# Altium schematic symbol library RP122.SchLib: 1 symbol
Pins are listed as number, name and electrical type; pins without a type are passive.

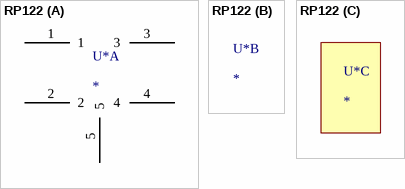
[diagram p0: symbol RP122]

## RP122
designator U*
part A pins: 1, 2, 3, 4, 5